# Altium schematic symbol library CRYSTAL HC49_US.SchLib: 1 symbol
Pins are listed as number, name and electrical type; pins without a type are passive.

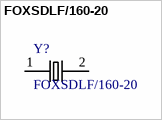
[diagram p0: symbol FOXSDLF/160-20]

## FOXSDLF/160-20
designator Y?
Crystal 16MHz 20pF 2-Pin HC-49/SD; MF: Fox; MP: FOXSDLF/160-20; Availability: Unavailable; Package: HC49/US Fox; SnapEDA_Link: https://www.snapeda.com/parts/FOXSDLF/160-20/Fox%20Electronics/view-part/?ref=snap; Price: None; Value: *
footprint XTAL_FOXSDLF/160-20
pins: 1, 2